# EAGLE library part ADL5380ACPZ-R7 (library ADL5380ACPZ-R7)
400 to 6000 MHz Quadrature Demodulator Source: Datasheet <http://componentsearchengine.com/Datasheets/1/ADL5380ACPZ-R7.pdf>
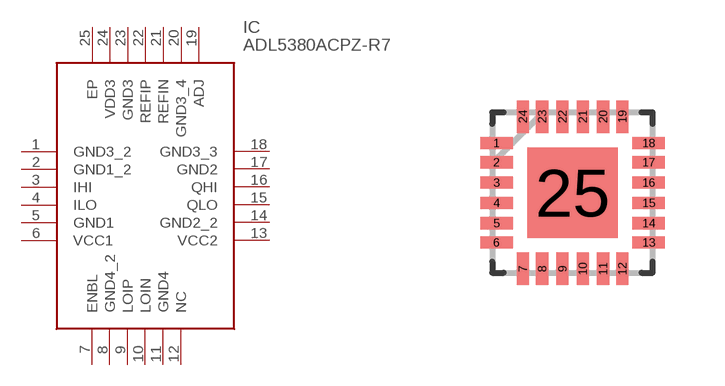
[diagram p0: symbol with the pads of QFN50P400X400X100-25N; footprint QFN50P400X400X100-25N]

Designator prefix IC

## ADL5380ACPZ-R7 (Description: 400 to 6000 MHz Quadrature Demodulator; Height: mm; Manufacturer_Name: Analog Devices; Manufacturer_Part_Number: ADL5380ACPZ-R7; Mouser_Part_Number: 584-ADL5380ACPZ-R7; Mouser_Price-Stock: https://www.mouser.co.uk/ProductDetail/Analog-Devices/ADL5380ACPZ-R7?qs=BpaRKvA4VqHnymuMypz2jQ%3D%3D)  [QFN50P400X400X100-25N]
1  GND3_2
2  GND1_2
3  IHI
4  ILO
5  GND1
6  VCC1
7  ENBL
8  GND4_2
9  LOIP
10  LOIN
11  GND4
12  NC  nc
13  VCC2
14  GND2_2
15  QLO
16  QHI
17  GND2
18  GND3_3
19  ADJ
20  GND3_4
21  REFIN
22  REFIP
23  GND3
24  VDD3
25  EP

## Footprint QFN50P400X400X100-25N (pad centres in mm)
QFN50P400X400X100-25N
smd 0.813 x 0.305: 1 -1.905,1.245; 2 -1.905,0.762; 3 -1.905,0.254; 4 -1.905,-0.254; 5 -1.905,-0.762; 6 -1.905,-1.245; 13 1.905,-1.245; 14 1.905,-0.762; 15 1.905,-0.254; 16 1.905,0.254; 17 1.905,0.762; 18 1.905,1.245
smd 0.305 x 0.813: 7 -1.245,-1.905; 8 -0.762,-1.905; 9 -0.254,-1.905; 10 0.254,-1.905; 11 0.762,-1.905; 12 1.245,-1.905; 19 1.245,1.905; 20 0.762,1.905; 21 0.254,1.905; 22 -0.254,1.905; 23 -0.762,1.905; 24 -1.245,1.905
smd 2.261 x 2.261: 25 0,0